# Altium schematic symbol library ATMEGA324PB-AU.SchLib: 1 symbol
Pins are listed as number, name and electrical type; pins without a type are passive.

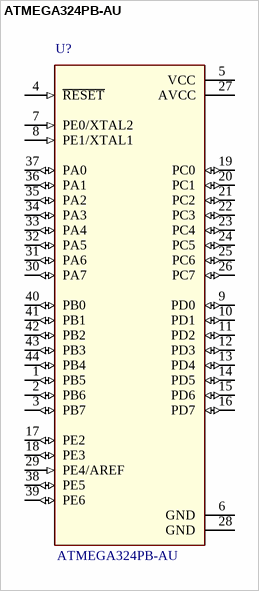
[diagram p0: symbol ATMEGA324PB-AU]

## ATMEGA324PB-AU
designator U?
Avr, 32kb Flash, 1kb Ee, 2kb Ram - 20mhz, Tqfp, Ind Temp, Green 5 v/ Tqfp _a_; MF: Microchip; Package: TQFP-44 Microchip; MP: ATMEGA324PB-AU; SnapEDA_Link: https://www.snapeda.com/parts/ATMEGA324PB-AU/Microchip/view-part/?ref=snap; Availability: Unavailable; Price: None; Value: *
footprint *QFP80P1200X1200X120-44N
pins: 1 PB5 (io), 2 PB6 (io), 3 PB7 (io), 4 ~{RESET} (in), 5 VCC (power), 6 GND (power), 7 PE0/XTAL2 (in), 8 PE1/XTAL1 (in), 9 PD0 (io), 10 PD1 (io), 11 PD2 (io), 12 PD3 (io), 13 PD4 (io), 14 PD5 (io), 15 PD6 (io), 16 PD7 (io), 17 PE2 (io), 18 PE3 (io), 19 PC0 (io), 20 PC1 (io), 21 PC2 (io), 22 PC3 (io), 23 PC4 (io), 24 PC5 (io), 25 PC6 (io), 26 PC7 (io), 27 AVCC (power), 28 GND (power), 29 PE4/AREF (in), 30 PA7 (io), 31 PA6 (io), 32 PA5 (io), 33 PA4 (io), 34 PA3 (io), 35 PA2 (io), 36 PA1 (io), 37 PA0 (io), 38 PE5 (io), 39 PE6 (io), 40 PB0 (io), 41 PB1 (io), 42 PB2 (io), 43 PB3 (io), 44 PB4 (io)